# Altium footprint library tackSwitch.PcbLib: 1 footprints
Each footprint in its own frame and in the unit in brackets; x right, y up, seen from the top. Pads: shape width x height; smd on the part's side, far side on the other; paste and mask are expansions set on the pad; w line width, h text height; cw(c..) or ccw(c..) is an arc to the next point about the centre after c.
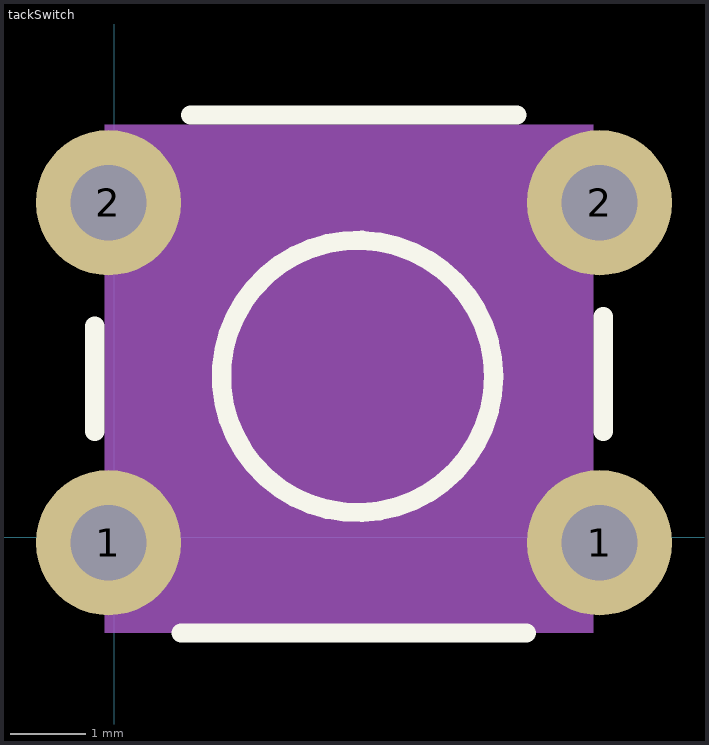
[diagram p0: the footprint, top view; thin cyan lines are the x and y axes]

## tackSwitch [mm]
pads (4):
  round 1.924 hole 1: 1(-0.073,-0.073) 1(6.427,-0.073) 2(-0.073,4.427) 2(6.427,4.427)
Top Overlay:
  circle w0.254: c3.224,2.127 r1.803
  lines w0.254: -0.254,1.397 -0.254,2.794 ; 0.889,-1.27 5.461,-1.27 ; 1.016,5.588 5.334,5.588 ; 6.477,1.397 6.477,2.921
Mechanical 1:
  rectangle: -0.127,-1.27 6.35,5.461